# EAGLE library part ICL7107 (library maxim)
Maxim 3.5 Digit A/D Converter ICL7107 - LED drive Available in 44-MQFP and 40-DIP +6Vmax, -9Vmax, 1W diss On-board display drive High Z CMOS Diff Inputs Clock and Ref on-chip Integrating measurement. ICL7106 is almost exactly the same chip, but drives an LCD with a backplane instead of 7-segment displays.
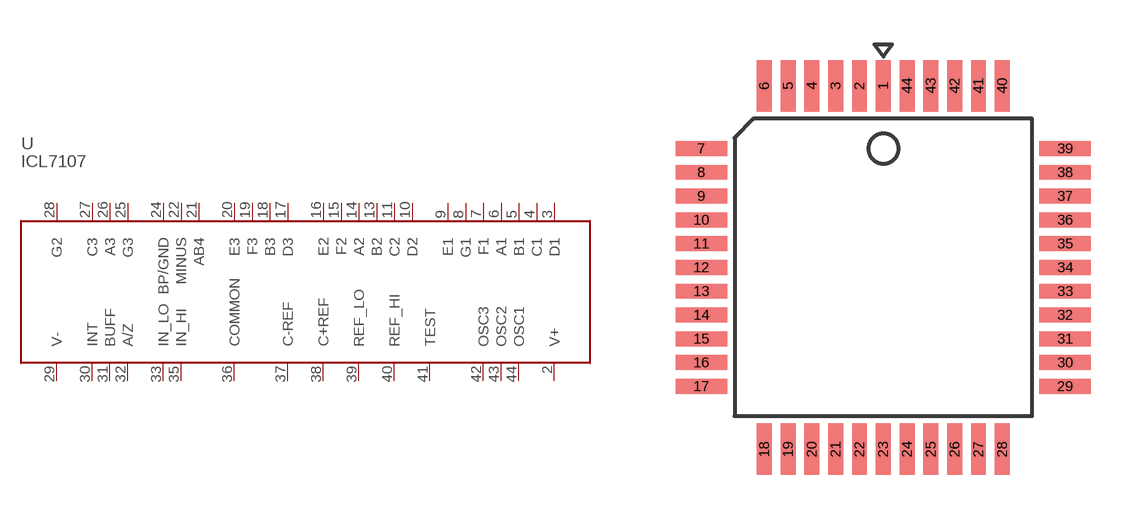
[diagram p3: symbol with the pads of MQFP44; footprint MQFP44]

Designator prefix U

## ICL7107CMH+D  [MQFP44]
2  V+
3  D1
4  C1
5  B1
6  A1
7  F1
8  G1
9  E1
10  D2
11  C2
13  B2
14  A2
15  F2
16  E2
17  D3
18  B3
19  F3
20  E3
21  AB4
22  MINUS
24  BP/GND
25  G3
26  A3
27  C3
28  G2
29  V-
30  INT
31  BUFF
32  A/Z
33  IN_LO
35  IN_HI
36  COMMON
37  C-REF
38  C+REF
39  REF_LO
40  REF_HI
41  TEST
42  OSC3
43  OSC2
44  OSC1

## Footprint MQFP44 (pad centres in mm)
M44 Package Land Pattern 10x10mm MQFP 0.50mm width by 1.73mm length, 0.80mm pitch pads. Pads around perimeter of 12.23mm square configuration, 11 pads to a side. Designed for ICL7106/7107/7126/7136, where pin 1 is found at 12 o'clock from center of chip. NOTE: Pin numbers increase going around CCW.
smd 0.5 x 1.73: 1 0,6.115; 2 -0.8,6.115; 3 -1.6,6.115; 4 -2.4,6.115; 5 -3.2,6.115; 6 -4,6.115; 18 -4,-6.115; 19 -3.2,-6.115; 20 -2.4,-6.115; 21 -1.6,-6.115; 22 -0.8,-6.115; 23 0,-6.115; 24 0.8,-6.115; 25 1.6,-6.115; 26 2.4,-6.115; 27 3.2,-6.115; 28 4,-6.115; 40 4,6.115; 41 3.2,6.115; 42 2.4,6.115; 43 1.6,6.115; 44 0.8,6.115
smd 1.73 x 0.5: 7 -6.115,4; 8 -6.115,3.2; 9 -6.115,2.4; 10 -6.115,1.6; 11 -6.115,0.8; 12 -6.115,0; 13 -6.115,-0.8; 14 -6.115,-1.6; 15 -6.115,-2.4; 16 -6.115,-3.2; 17 -6.115,-4; 29 6.115,-4; 30 6.115,-3.2; 31 6.115,-2.4; 32 6.115,-1.6; 33 6.115,-0.8; 34 6.115,0; 35 6.115,0.8; 36 6.115,1.6; 37 6.115,2.4; 38 6.115,3.2; 39 6.115,4